# EAGLE library part TLC5973 (library comma.ai)
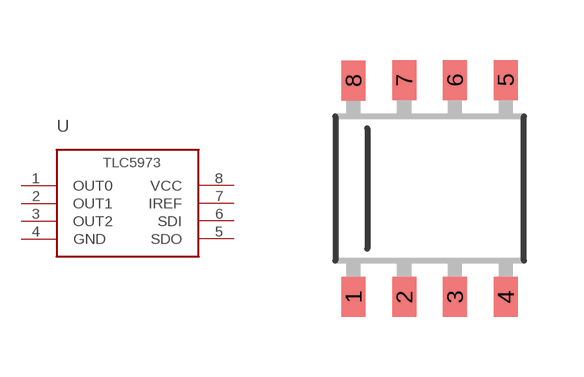
[diagram p35: symbol with the pads of SOIC8; footprint SOIC8]

Designator prefix -

## TLC5973SMD  [SOIC8]
1  OUT0
2  OUT1
3  OUT2
4  GND
5  SDO
6  SDI
7  IREF
8  VCC

## Footprint SOIC8 (pad centres in mm)
smd 0.6 x 1: 1 -1.905,-2.716; 2 -0.635,-2.716; 3 0.635,-2.716; 4 1.905,-2.716; 5 1.905,2.716; 6 0.635,2.716; 7 -0.635,2.716; 8 -1.905,2.7